# EAGLE library part IDC-10 (library _mtvl.connectors)
IDC-10
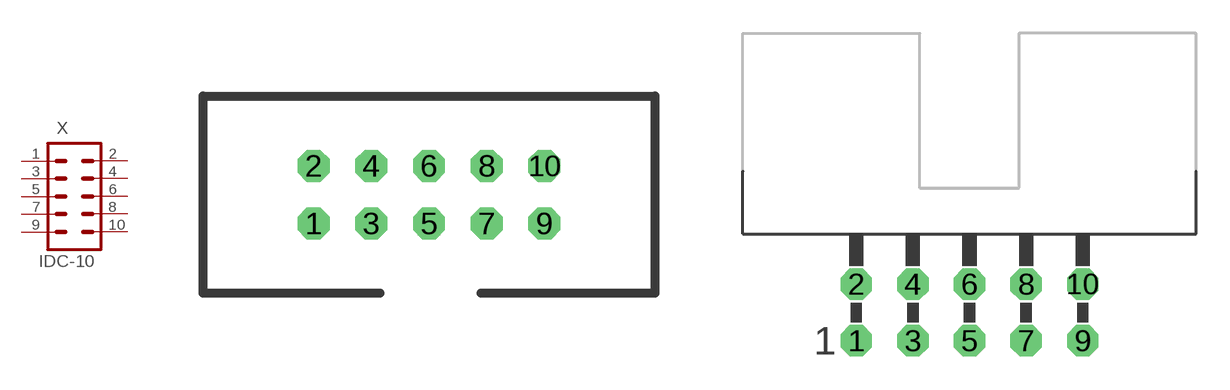
[diagram p6: symbol with the pads of IDC-10; footprints IDC-10, IDC-10R]

Designator prefix X

## IDC-10P (OC_FARNELL: unknown; OC_NEWARK: unknown)  [IDC-10]
1  1  pas
2  2  pas
3  3  pas
4  4  pas
5  5  pas
6  6  pas
7  7  pas
8  8  pas
9  9  pas
10  10  pas

## IDC-10R  [IDC-10R]
Pads as for IDC-10

## Footprint IDC-10 (pad centres in mm)
IDC-10
drill 0.9 octagon: 1 -5.08,-1.27; 2 -5.08,1.27; 3 -2.54,-1.27; 4 -2.54,1.27; 5 0,-1.27; 6 0,1.27; 7 2.54,-1.27; 8 2.54,1.27; 9 5.08,-1.27; 10 5.08,1.27

## Footprint IDC-10R (pad centres in mm)
IDC CONNECTOR: Right Angle BH-10R (DS1013-10R) (IDC-10MR)
drill 0.9 octagon: 1 -5.08,-1.27; 2 -5.08,1.27; 3 -2.54,-1.27; 4 -2.54,1.27; 5 0,-1.27; 6 0,1.27; 7 2.54,-1.27; 8 2.54,1.27; 9 5.08,-1.27; 10 5.08,1.27